# Altium schematic symbol library BFR750L3RH.SchLib: 1 symbol
Pins are listed as number, name and electrical type; pins without a type are passive.

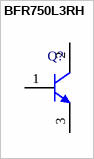
[diagram p0: symbol BFR750L3RH]

## BFR750L3RH
designator Q?
NPN Silicon Germanium RF Transistor, 4 V VCEO, 90 mA IC, 21 dB Gmax, TSLP-3-9, Green; Manufacturer: Infineon; PartNumber: BFR750L3RH; Gmax (typ): 21 dB; Green: yes; Group: SiGe; IC (max): 90 mA; NFmin (typ): 0.6 dB; Ptot (max): 360.0 mW; VCEO (max): 4 V; DatasheetVersion: Apr-2007; PackageReference: TSLP-3-9; PackageDescription: 3-Pin Thin Small Leadless Package, 0.6 x 1 mm Body; Supplier 1: Mouser; Supplier Part Number 1: N/A; Halogen-free: yes; Mounting Technology: Surface Mount; ComponentLink1Description: Manufacturer URL; ComponentLink1URL: http://www.infineon.com/; ComponentLink2Description: Datasheet; ComponentLink2URL: http://www.infineon.com/dgdl/bfr750l3rh.pdf?folderId=db3a30431400ef68011425b291f205c5&fileId=db3a30431400ef6801142736564006fb&location=en.Products.RF.RF_Transistors_.High_Linearity_Si-_and_SiGe_C-Transistors_for_use_up_to_6_GHz.DATASHEET.bfr750l3rh.pdf; ComponentLink3Description: Package Specification; ComponentLink3URL: http://www.infineon.com/dgdl/TSLP-3-9-Package_Overview.pdf?folderId=db3a304319bc939a0119becdb18f008a&fileId=db3a304319bc939a0119bedef5a600a3
footprint INF-TSLP-3-9_V (TSLP, 3-Leads, Body 1x0.6 mm)
pins: 1 B, 2 C, 3 E